# Altium schematic symbol library dungvh03-CERN_Logic.SchLib: 486 symbols (part 16 of 54)
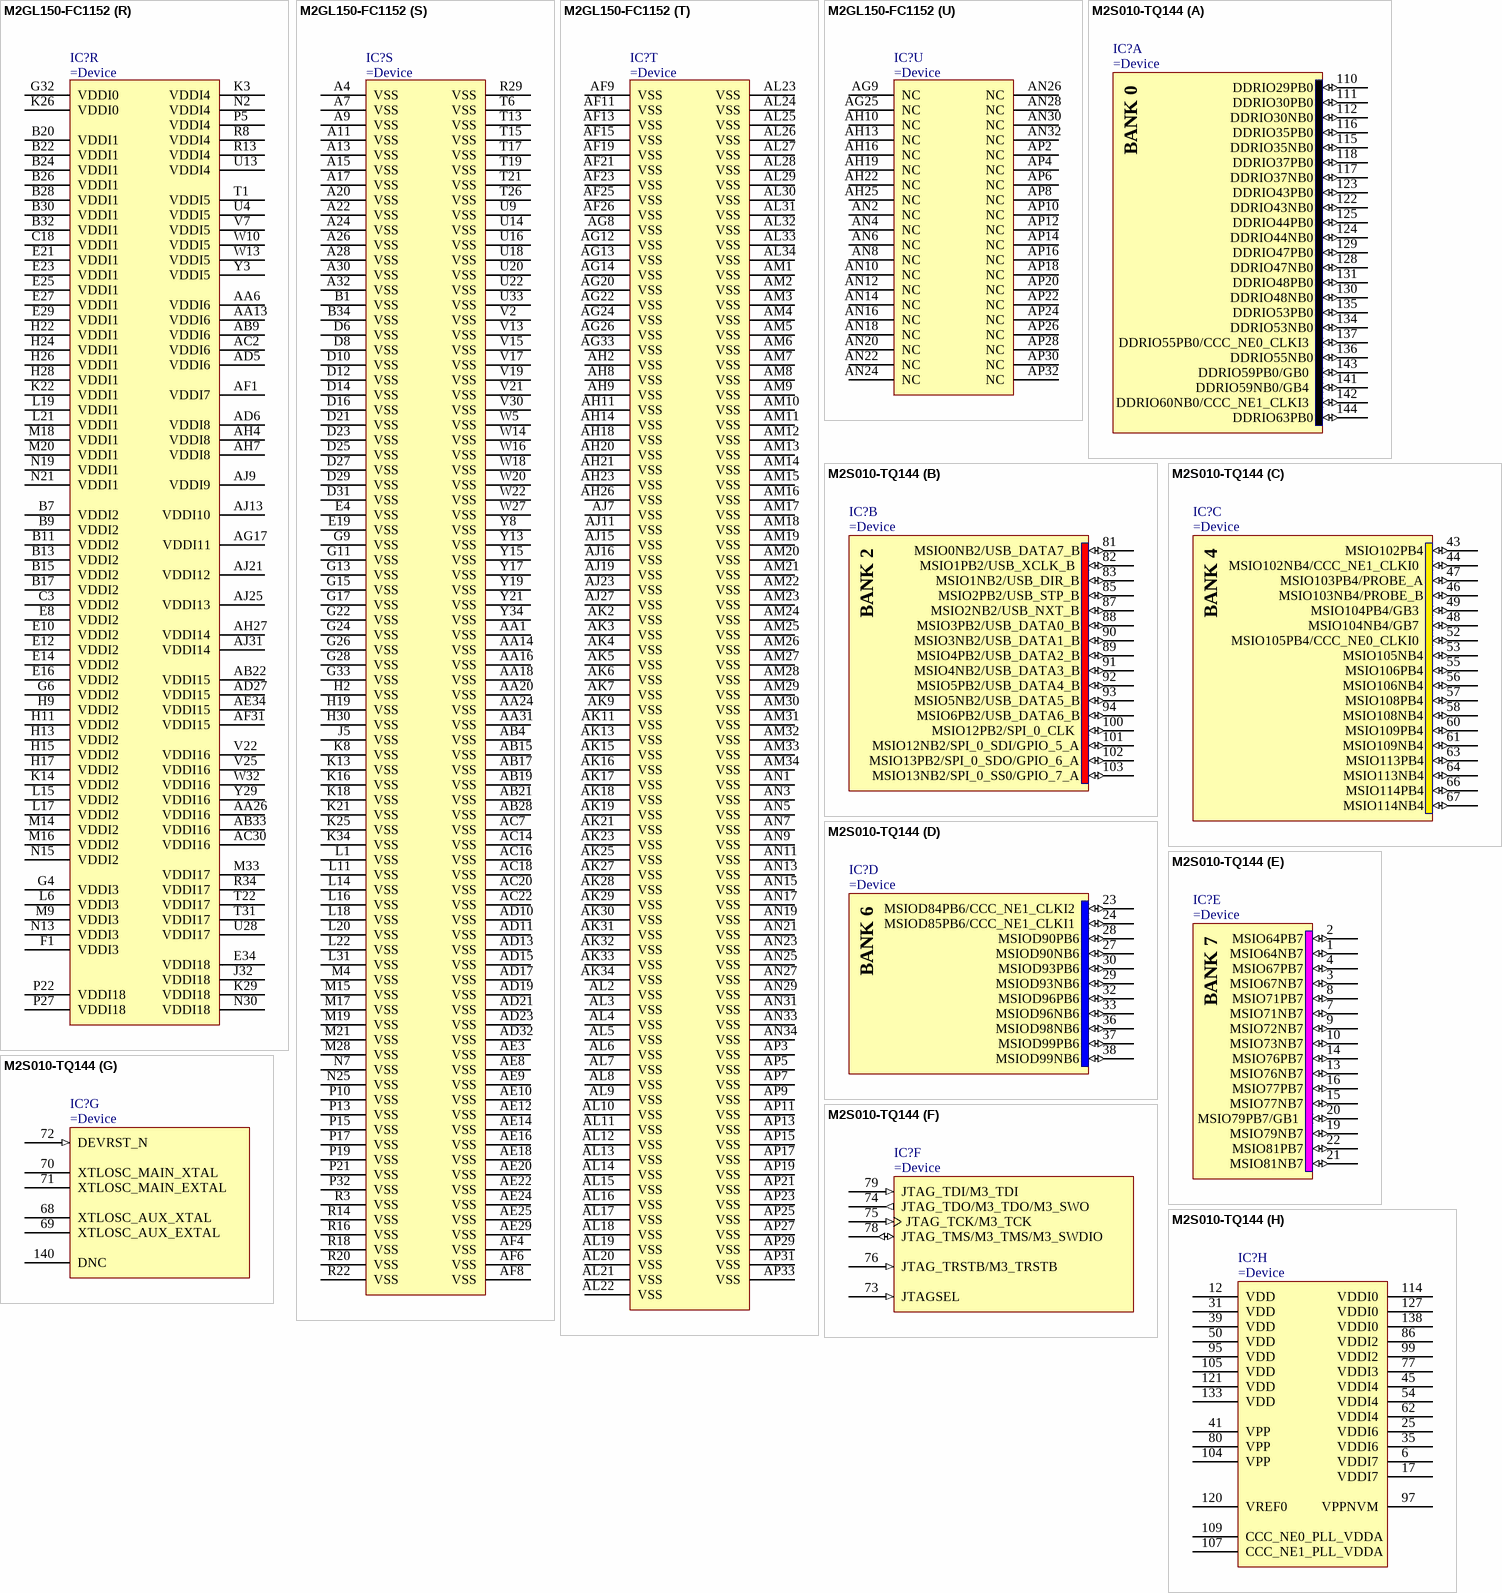
[diagram p276: symbols M2GL150-FC1152 to M2S010-TQ144]

## M2GL150-FC1152 (continued)
part K pins: AA25 MSIOD241PB16 (io) "MSIOD is very similar to MSIO, but drops 3.3 V and hot-plug support and adds pre-emphasis, in order to achieve higher speeds. MSIODs provide programmable drive strength, weak pull-up, and weak pull-down. MSIOD I/O cells (See Datasheet)", AA27 MSIOD238PB16 (io) "MSIOD is very similar to MSIO, but drops 3.3 V and hot-plug support and adds pre-emphasis, in order to achieve higher speeds. MSIODs provide programmable drive strength, weak pull-up, and weak pull-down. MSIOD I/O cells (See Datasheet)", AA28 MSIOD238NB16 (io) "MSIOD is very similar to MSIO, but drops 3.3 V and hot-plug support and adds pre-emphasis, in order to achieve higher speeds. MSIODs provide programmable drive strength, weak pull-up, and weak pull-down. MSIOD I/O cells (See Datasheet)", AA29 MSIOD237PB16 (io) "MSIOD is very similar to MSIO, but drops 3.3 V and hot-plug support and adds pre-emphasis, in order to achieve higher speeds. MSIODs provide programmable drive strength, weak pull-up, and weak pull-down. MSIOD I/O cells (See Datasheet)", AA30 MSIOD237NB16 (io) "MSIOD is very similar to MSIO, but drops 3.3 V and hot-plug support and adds pre-emphasis, in order to achieve higher speeds. MSIODs provide programmable drive strength, weak pull-up, and weak pull-down. MSIOD I/O cells (See Datasheet)", AA32 MSIOD228PB16 (io) "MSIOD is very similar to MSIO, but drops 3.3 V and hot-plug support and adds pre-emphasis, in order to achieve higher speeds. MSIODs provide programmable drive strength, weak pull-up, and weak pull-down. MSIOD I/O cells (See Datasheet)", AA33 MSIOD225PB16 (io) "MSIOD is very similar to MSIO, but drops 3.3 V and hot-plug support and adds pre-emphasis, in order to achieve higher speeds. MSIODs provide programmable drive strength, weak pull-up, and weak pull-down. MSIOD I/O cells (See Datasheet)", AA34 MSIOD225NB16 (io) "MSIOD is very similar to MSIO, but drops 3.3 V and hot-plug support and adds pre-emphasis, in order to achieve higher speeds. MSIODs provide programmable drive strength, weak pull-up, and weak pull-down. MSIOD I/O cells (See Datasheet)", AB29 MSIOD242PB16 (io) "MSIOD is very similar to MSIO, but drops 3.3 V and hot-plug support and adds pre-emphasis, in order to achieve higher speeds. MSIODs provide programmable drive strength, weak pull-up, and weak pull-down. MSIOD I/O cells (See Datasheet)", AB30 MSIOD242NB16 (io) "MSIOD is very similar to MSIO, but drops 3.3 V and hot-plug support and adds pre-emphasis, in order to achieve higher speeds. MSIODs provide programmable drive strength, weak pull-up, and weak pull-down. MSIOD I/O cells (See Datasheet)", AB31 MSIOD236PB16 (io) "MSIOD is very similar to MSIO, but drops 3.3 V and hot-plug support and adds pre-emphasis, in order to achieve higher speeds. MSIODs provide programmable drive strength, weak pull-up, and weak pull-down. MSIOD I/O cells (See Datasheet)", AB32 MSIOD236NB16 (io) "MSIOD is very similar to MSIO, but drops 3.3 V and hot-plug support and adds pre-emphasis, in order to achieve higher speeds. MSIODs provide programmable drive strength, weak pull-up, and weak pull-down. MSIOD I/O cells (See Datasheet)", AB34 MSIOD232NB16 (io) "MSIOD is very similar to MSIO, but drops 3.3 V and hot-plug support and adds pre-emphasis, in order to achieve higher speeds. MSIODs provide programmable drive strength, weak pull-up, and weak pull-down. MSIOD I/O cells (See Datasheet)", AC28 MSIOD243PB16 (io) "MSIOD is very similar to MSIO, but drops 3.3 V and hot-plug support and adds pre-emphasis, in order to achieve higher speeds. MSIODs provide programmable drive strength, weak pull-up, and weak pull-down. MSIOD I/O cells (See Datasheet)", AC29 MSIOD243NB16 (io) "MSIOD is very similar to MSIO, but drops 3.3 V and hot-plug support and adds pre-emphasis, in order to achieve higher speeds. MSIODs provide programmable drive strength, weak pull-up, and weak pull-down. MSIOD I/O cells (See Datasheet)", AC31 MSIOD240NB16 (io) "MSIOD is very similar to MSIO, but drops 3.3 V and hot-plug support and adds pre-emphasis, in order to achieve higher speeds. MSIODs provide programmable drive strength, weak pull-up, and weak pull-down. MSIOD I/O cells (See Datasheet)", AC32 MSIOD233PB16 (io) "MSIOD is very similar to MSIO, but drops 3.3 V and hot-plug support and adds pre-emphasis, in order to achieve higher speeds. MSIODs provide programmable drive strength, weak pull-up, and weak pull-down. MSIOD I/O cells (See Datasheet)", AC33 MSIOD233NB16 (io) "MSIOD is very similar to MSIO, but drops 3.3 V and hot-plug support and adds pre-emphasis, in order to achieve higher speeds. MSIODs provide programmable drive strength, weak pull-up, and weak pull-down. MSIOD I/O cells (See Datasheet)", AC34 MSIOD232PB16 (io) "MSIOD is very similar to MSIO, but drops 3.3 V and hot-plug support and adds pre-emphasis, in order to achieve higher speeds. MSIODs provide programmable drive strength, weak pull-up, and weak pull-down. MSIOD I/O cells (See Datasheet)", AD31 MSIOD240PB16 (io) "MSIOD is very similar to MSIO, but drops 3.3 V and hot-plug support and adds pre-emphasis, in order to achieve higher speeds. MSIODs provide programmable drive strength, weak pull-up, and weak pull-down. MSIOD I/O cells (See Datasheet)", AD33 MSIOD239PB16 (io) "MSIOD is very similar to MSIO, but drops 3.3 V and hot-plug support and adds pre-emphasis, in order to achieve higher speeds. MSIODs provide programmable drive strength, weak pull-up, and weak pull-down. MSIOD I/O cells (See Datasheet)", AD34 MSIOD239NB16 (io) "MSIOD is very similar to MSIO, but drops 3.3 V and hot-plug support and adds pre-emphasis, in order to achieve higher speeds. MSIODs provide programmable drive strength, weak pull-up, and weak pull-down. MSIOD I/O cells (See Datasheet)", T34 MSIOD217NB16 (io) "MSIOD is very similar to MSIO, but drops 3.3 V and hot-plug support and adds pre-emphasis, in order to achieve higher speeds. MSIODs provide programmable drive strength, weak pull-up, and weak pull-down. MSIOD I/O cells (See Datasheet)", U34 MSIOD217PB16/GB5/CCC_SW1_CLKI1 (io), V23 MSIOD220PB16/CCC_SW0_CLKI0 (io), V24 MSIOD220NB16 (io) "MSIOD is very similar to MSIO, but drops 3.3 V and hot-plug support and adds pre-emphasis, in order to achieve higher speeds. MSIODs provide programmable drive strength, weak pull-up, and weak pull-down. MSIOD I/O cells (See Datasheet)", V26 MSIOD222NB16 (io) "MSIOD is very similar to MSIO, but drops 3.3 V and hot-plug support and adds pre-emphasis, in order to achieve higher speeds. MSIODs provide programmable drive strength, weak pull-up, and weak pull-down. MSIOD I/O cells (See Datasheet)", V27 MSIOD222PB16 (io) "MSIOD is very similar to MSIO, but drops 3.3 V and hot-plug support and adds pre-emphasis, in order to achieve higher speeds. MSIODs provide programmable drive strength, weak pull-up, and weak pull-down. MSIOD I/O cells (See Datasheet)", V28 MSIOD223NB16 (io) "MSIOD is very similar to MSIO, but drops 3.3 V and hot-plug support and adds pre-emphasis, in order to achieve higher speeds. MSIODs provide programmable drive strength, weak pull-up, and weak pull-down. MSIOD I/O cells (See Datasheet)", V29 MSIOD223PB16 (io) "MSIOD is very similar to MSIO, but drops 3.3 V and hot-plug support and adds pre-emphasis, in order to achieve higher speeds. MSIODs provide programmable drive strength, weak pull-up, and weak pull-down. MSIOD I/O cells (See Datasheet)", V31 MSIOD221NB16 (io) "MSIOD is very similar to MSIO, but drops 3.3 V and hot-plug support and adds pre-emphasis, in order to achieve higher speeds. MSIODs provide programmable drive strength, weak pull-up, and weak pull-down. MSIOD I/O cells (See Datasheet)", V32 MSIOD218PB16/GB1/CCC_SW0_CLKI1 (io), V33 MSIOD218NB16 (io) "MSIOD is very similar to MSIO, but drops 3.3 V and hot-plug support and adds pre-emphasis, in order to achieve higher speeds. MSIODs provide programmable drive strength, weak pull-up, and weak pull-down. MSIOD I/O cells (See Datasheet)", V34 MSIOD219NB16 (io) "MSIOD is very similar to MSIO, but drops 3.3 V and hot-plug support and adds pre-emphasis, in order to achieve higher speeds. MSIODs provide programmable drive strength, weak pull-up, and weak pull-down. MSIOD I/O cells (See Datasheet)", W23 MSIOD227PB16 (io) "MSIOD is very similar to MSIO, but drops 3.3 V and hot-plug support and adds pre-emphasis, in order to achieve higher speeds. MSIODs provide programmable drive strength, weak pull-up, and weak pull-down. MSIOD I/O cells (See Datasheet)", W24 MSIOD227NB16 (io) "MSIOD is very similar to MSIO, but drops 3.3 V and hot-plug support and adds pre-emphasis, in order to achieve higher speeds. MSIODs provide programmable drive strength, weak pull-up, and weak pull-down. MSIOD I/O cells (See Datasheet)", W25 MSIOD229NB16 (io) "MSIOD is very similar to MSIO, but drops 3.3 V and hot-plug support and adds pre-emphasis, in order to achieve higher speeds. MSIODs provide programmable drive strength, weak pull-up, and weak pull-down. MSIOD I/O cells (See Datasheet)", W26 MSIOD229PB16 (io) "MSIOD is very similar to MSIO, but drops 3.3 V and hot-plug support and adds pre-emphasis, in order to achieve higher speeds. MSIODs provide programmable drive strength, weak pull-up, and weak pull-down. MSIOD I/O cells (See Datasheet)", W28 MSIOD231NB16 (io) "MSIOD is very similar to MSIO, but drops 3.3 V and hot-plug support and adds pre-emphasis, in order to achieve higher speeds. MSIODs provide programmable drive strength, weak pull-up, and weak pull-down. MSIOD I/O cells (See Datasheet)", W29 MSIOD226PB16 (io) "MSIOD is very similar to MSIO, but drops 3.3 V and hot-plug support and adds pre-emphasis, in order to achieve higher speeds. MSIODs provide programmable drive strength, weak pull-up, and weak pull-down. MSIOD I/O cells (See Datasheet)", W30 MSIOD226NB16 (io) "MSIOD is very similar to MSIO, but drops 3.3 V and hot-plug support and adds pre-emphasis, in order to achieve higher speeds. MSIODs provide programmable drive strength, weak pull-up, and weak pull-down. MSIOD I/O cells (See Datasheet)", W31 MSIOD221PB16 (io) "MSIOD is very similar to MSIO, but drops 3.3 V and hot-plug support and adds pre-emphasis, in order to achieve higher speeds. MSIODs provide programmable drive strength, weak pull-up, and weak pull-down. MSIOD I/O cells (See Datasheet)", W33 MSIOD224NB16 (io) "MSIOD is very similar to MSIO, but drops 3.3 V and hot-plug support and adds pre-emphasis, in order to achieve higher speeds. MSIODs provide programmable drive strength, weak pull-up, and weak pull-down. MSIOD I/O cells (See Datasheet)", W34 MSIOD219PB16/CCC_SW1_CLKI0 (io), Y23 MSIOD234PB16 (io) "MSIOD is very similar to MSIO, but drops 3.3 V and hot-plug support and adds pre-emphasis, in order to achieve higher speeds. MSIODs provide programmable drive strength, weak pull-up, and weak pull-down. MSIOD I/O cells (See Datasheet)", Y24 MSIOD234NB16 (io) "MSIOD is very similar to MSIO, but drops 3.3 V and hot-plug support and adds pre-emphasis, in order to achieve higher speeds. MSIODs provide programmable drive strength, weak pull-up, and weak pull-down. MSIOD I/O cells (See Datasheet)", Y25 MSIOD241NB16 (io) "MSIOD is very similar to MSIO, but drops 3.3 V and hot-plug support and adds pre-emphasis, in order to achieve higher speeds. MSIODs provide programmable drive strength, weak pull-up, and weak pull-down. MSIOD I/O cells (See Datasheet)", Y26 MSIOD235PB16 (io) "MSIOD is very similar to MSIO, but drops 3.3 V and hot-plug support and adds pre-emphasis, in order to achieve higher speeds. MSIODs provide programmable drive strength, weak pull-up, and weak pull-down. MSIOD I/O cells (See Datasheet)", Y27 MSIOD235NB16 (io) "MSIOD is very similar to MSIO, but drops 3.3 V and hot-plug support and adds pre-emphasis, in order to achieve higher speeds. MSIODs provide programmable drive strength, weak pull-up, and weak pull-down. MSIOD I/O cells (See Datasheet)", Y28 MSIOD231PB16 (io) "MSIOD is very similar to MSIO, but drops 3.3 V and hot-plug support and adds pre-emphasis, in order to achieve higher speeds. MSIODs provide programmable drive strength, weak pull-up, and weak pull-down. MSIOD I/O cells (See Datasheet)", Y30 MSIOD230PB16 (io) "MSIOD is very similar to MSIO, but drops 3.3 V and hot-plug support and adds pre-emphasis, in order to achieve higher speeds. MSIODs provide programmable drive strength, weak pull-up, and weak pull-down. MSIOD I/O cells (See Datasheet)", Y31 MSIOD230NB16 (io) "MSIOD is very similar to MSIO, but drops 3.3 V and hot-plug support and adds pre-emphasis, in order to achieve higher speeds. MSIODs provide programmable drive strength, weak pull-up, and weak pull-down. MSIOD I/O cells (See Datasheet)", Y32 MSIOD228NB16 (io) "MSIOD is very similar to MSIO, but drops 3.3 V and hot-plug support and adds pre-emphasis, in order to achieve higher speeds. MSIODs provide programmable drive strength, weak pull-up, and weak pull-down. MSIOD I/O cells (See Datasheet)", Y33 MSIOD224PB16 (io) "MSIOD is very similar to MSIO, but drops 3.3 V and hot-plug support and adds pre-emphasis, in order to achieve higher speeds. MSIODs provide programmable drive strength, weak pull-up, and weak pull-down. MSIOD I/O cells (See Datasheet)"
part L pins: L34 MSIO197NB17 (io) "MSIOs provide programmable drive strength, weak pull-up, and weak-pulldown.In single ended mode, the I/O pair operates as two separate I/Os named P and N. Some of these pins are also multiplexed with integrated peripherals (See Datasheet)", M34 MSIO197PB17 (io) "MSIOs provide programmable drive strength, weak pull-up, and weak-pulldown.In single ended mode, the I/O pair operates as two separate I/Os named P and N. Some of these pins are also multiplexed with integrated peripherals (See Datasheet)", N31 MSIO201NB17 (io) "MSIOs provide programmable drive strength, weak pull-up, and weak-pulldown.In single ended mode, the I/O pair operates as two separate I/Os named P and N. Some of these pins are also multiplexed with integrated peripherals (See Datasheet)", N32 MSIO201PB17 (io) "MSIOs provide programmable drive strength, weak pull-up, and weak-pulldown.In single ended mode, the I/O pair operates as two separate I/Os named P and N. Some of these pins are also multiplexed with integrated peripherals (See Datasheet)", N33 MSIO203NB17 (io) "MSIOs provide programmable drive strength, weak pull-up, and weak-pulldown.In single ended mode, the I/O pair operates as two separate I/Os named P and N. Some of these pins are also multiplexed with integrated peripherals (See Datasheet)", N34 MSIO208NB17 (io) "MSIOs provide programmable drive strength, weak pull-up, and weak-pulldown.In single ended mode, the I/O pair operates as two separate I/Os named P and N. Some of these pins are also multiplexed with integrated peripherals (See Datasheet)", P28 MSIO198NB17 (io) "MSIOs provide programmable drive strength, weak pull-up, and weak-pulldown.In single ended mode, the I/O pair operates as two separate I/Os named P and N. Some of these pins are also multiplexed with integrated peripherals (See Datasheet)", P29 MSIO198PB17 (io) "MSIOs provide programmable drive strength, weak pull-up, and weak-pulldown.In single ended mode, the I/O pair operates as two separate I/Os named P and N. Some of these pins are also multiplexed with integrated peripherals (See Datasheet)", P30 MSIO199NB17 (io) "MSIOs provide programmable drive strength, weak pull-up, and weak-pulldown.In single ended mode, the I/O pair operates as two separate I/Os named P and N. Some of these pins are also multiplexed with integrated peripherals (See Datasheet)", P31 MSIO199PB17 (io) "MSIOs provide programmable drive strength, weak pull-up, and weak-pulldown.In single ended mode, the I/O pair operates as two separate I/Os named P and N. Some of these pins are also multiplexed with integrated peripherals (See Datasheet)", P33 MSIO203PB17 (io) "MSIOs provide programmable drive strength, weak pull-up, and weak-pulldown.In single ended mode, the I/O pair operates as two separate I/Os named P and N. Some of these pins are also multiplexed with integrated peripherals (See Datasheet)", P34 MSIO208PB17 (io) "MSIOs provide programmable drive strength, weak pull-up, and weak-pulldown.In single ended mode, the I/O pair operates as two separate I/Os named P and N. Some of these pins are also multiplexed with integrated peripherals (See Datasheet)", R23 MSIO200PB17 (io) "MSIOs provide programmable drive strength, weak pull-up, and weak-pulldown.In single ended mode, the I/O pair operates as two separate I/Os named P and N. Some of these pins are also multiplexed with integrated peripherals (See Datasheet)", R24 MSIO200NB17 (io) "MSIOs provide programmable drive strength, weak pull-up, and weak-pulldown.In single ended mode, the I/O pair operates as two separate I/Os named P and N. Some of these pins are also multiplexed with integrated peripherals (See Datasheet)", R25 MSIO202NB17 (io) "MSIOs provide programmable drive strength, weak pull-up, and weak-pulldown.In single ended mode, the I/O pair operates as two separate I/Os named P and N. Some of these pins are also multiplexed with integrated peripherals (See Datasheet)", R26 MSIO202PB17 (io) "MSIOs provide programmable drive strength, weak pull-up, and weak-pulldown.In single ended mode, the I/O pair operates as two separate I/Os named P and N. Some of these pins are also multiplexed with integrated peripherals (See Datasheet)", R27 MSIO204NB17 (io) "MSIOs provide programmable drive strength, weak pull-up, and weak-pulldown.In single ended mode, the I/O pair operates as two separate I/Os named P and N. Some of these pins are also multiplexed with integrated peripherals (See Datasheet)", R28 MSIO204PB17 (io) "MSIOs provide programmable drive strength, weak pull-up, and weak-pulldown.In single ended mode, the I/O pair operates as two separate I/Os named P and N. Some of these pins are also multiplexed with integrated peripherals (See Datasheet)", R30 MSIO205NB17 (io) "MSIOs provide programmable drive strength, weak pull-up, and weak-pulldown.In single ended mode, the I/O pair operates as two separate I/Os named P and N. Some of these pins are also multiplexed with integrated peripherals (See Datasheet)", R31 MSIO205PB17 (io) "MSIOs provide programmable drive strength, weak pull-up, and weak-pulldown.In single ended mode, the I/O pair operates as two separate I/Os named P and N. Some of these pins are also multiplexed with integrated peripherals (See Datasheet)", R32 MSIO207NB17 (io) "MSIOs provide programmable drive strength, weak pull-up, and weak-pulldown.In single ended mode, the I/O pair operates as two separate I/Os named P and N. Some of these pins are also multiplexed with integrated peripherals (See Datasheet)", R33 MSIO207PB17 (io) "MSIOs provide programmable drive strength, weak pull-up, and weak-pulldown.In single ended mode, the I/O pair operates as two separate I/Os named P and N. Some of these pins are also multiplexed with integrated peripherals (See Datasheet)", T23 MSIO206PB17 (io) "MSIOs provide programmable drive strength, weak pull-up, and weak-pulldown.In single ended mode, the I/O pair operates as two separate I/Os named P and N. Some of these pins are also multiplexed with integrated peripherals (See Datasheet)", T24 MSIO206NB17 (io) "MSIOs provide programmable drive strength, weak pull-up, and weak-pulldown.In single ended mode, the I/O pair operates as two separate I/Os named P and N. Some of these pins are also multiplexed with integrated peripherals (See Datasheet)", T25 MSIO211NB17 (io) "MSIOs provide programmable drive strength, weak pull-up, and weak-pulldown.In single ended mode, the I/O pair operates as two separate I/Os named P and N. Some of these pins are also multiplexed with integrated peripherals (See Datasheet)", T27 MSIO209NB17 (io) "MSIOs provide programmable drive strength, weak pull-up, and weak-pulldown.In single ended mode, the I/O pair operates as two separate I/Os named P and N. Some of these pins are also multiplexed with integrated peripherals (See Datasheet)", T28 MSIO209PB17 (io) "MSIOs provide programmable drive strength, weak pull-up, and weak-pulldown.In single ended mode, the I/O pair operates as two separate I/Os named P and N. Some of these pins are also multiplexed with integrated peripherals (See Datasheet)", T29 MSIO210NB17 (io) "MSIOs provide programmable drive strength, weak pull-up, and weak-pulldown.In single ended mode, the I/O pair operates as two separate I/Os named P and N. Some of these pins are also multiplexed with integrated peripherals (See Datasheet)", T30 MSIO210PB17 (io) "MSIOs provide programmable drive strength, weak pull-up, and weak-pulldown.In single ended mode, the I/O pair operates as two separate I/Os named P and N. Some of these pins are also multiplexed with integrated peripherals (See Datasheet)", T32 MSIO212NB17 (io) "MSIOs provide programmable drive strength, weak pull-up, and weak-pulldown.In single ended mode, the I/O pair operates as two separate I/Os named P and N. Some of these pins are also multiplexed with integrated peripherals (See Datasheet)", T33 MSIO212PB17 (io) "MSIOs provide programmable drive strength, weak pull-up, and weak-pulldown.In single ended mode, the I/O pair operates as two separate I/Os named P and N. Some of these pins are also multiplexed with integrated peripherals (See Datasheet)", U23 MSIO214PB17/GB2/CCC_NW0_CLKI1 (io), U24 MSIO214NB17 (io) "MSIOs provide programmable drive strength, weak pull-up, and weak-pulldown.In single ended mode, the I/O pair operates as two separate I/Os named P and N. Some of these pins are also multiplexed with integrated peripherals (See Datasheet)", U25 MSIO211PB17 (io) "MSIOs provide programmable drive strength, weak pull-up, and weak-pulldown.In single ended mode, the I/O pair operates as two separate I/Os named P and N. Some of these pins are also multiplexed with integrated peripherals (See Datasheet)", U26 MSIO216NB17 (io) "MSIOs provide programmable drive strength, weak pull-up, and weak-pulldown.In single ended mode, the I/O pair operates as two separate I/Os named P and N. Some of these pins are also multiplexed with integrated peripherals (See Datasheet)", U27 MSIO216PB17/CCC_NW0_CLKI0 (io), U29 MSIO215PB17/CCC_NW1_CLKI0 (io), U30 MSIO215NB17 (io) "MSIOs provide programmable drive strength, weak pull-up, and weak-pulldown.In single ended mode, the I/O pair operates as two separate I/Os named P and N. Some of these pins are also multiplexed with integrated peripherals (See Datasheet)", U31 MSIO213PB17/GB6/CCC_NW1_CLKI1 (io), U32 MSIO213NB17 (io) "MSIOs provide programmable drive strength, weak pull-up, and weak-pulldown.In single ended mode, the I/O pair operates as two separate I/Os named P and N. Some of these pins are also multiplexed with integrated peripherals (See Datasheet)"
part M pins: C34 MSIO180NB18 (io) "MSIOs provide programmable drive strength, weak pull-up, and weak-pulldown.In single ended mode, the I/O pair operates as two separate I/Os named P and N. Some of these pins are also multiplexed with integrated peripherals (See Datasheet)", D33 MSIO176NB18 (io) "MSIOs provide programmable drive strength, weak pull-up, and weak-pulldown.In single ended mode, the I/O pair operates as two separate I/Os named P and N. Some of these pins are also multiplexed with integrated peripherals (See Datasheet)", D34 MSIO180PB18 (io) "MSIOs provide programmable drive strength, weak pull-up, and weak-pulldown.In single ended mode, the I/O pair operates as two separate I/Os named P and N. Some of these pins are also multiplexed with integrated peripherals (See Datasheet)", E33 MSIO176PB18 (io) "MSIOs provide programmable drive strength, weak pull-up, and weak-pulldown.In single ended mode, the I/O pair operates as two separate I/Os named P and N. Some of these pins are also multiplexed with integrated peripherals (See Datasheet)", F33 MSIO185NB18 (io) "MSIOs provide programmable drive strength, weak pull-up, and weak-pulldown.In single ended mode, the I/O pair operates as two separate I/Os named P and N. Some of these pins are also multiplexed with integrated peripherals (See Datasheet)", F34 MSIO185PB18 (io) "MSIOs provide programmable drive strength, weak pull-up, and weak-pulldown.In single ended mode, the I/O pair operates as two separate I/Os named P and N. Some of these pins are also multiplexed with integrated peripherals (See Datasheet)", G34 MSIO196NB18 (io) "MSIOs provide programmable drive strength, weak pull-up, and weak-pulldown.In single ended mode, the I/O pair operates as two separate I/Os named P and N. Some of these pins are also multiplexed with integrated peripherals (See Datasheet)", H32 MSIO184NB18 (io) "MSIOs provide programmable drive strength, weak pull-up, and weak-pulldown.In single ended mode, the I/O pair operates as two separate I/Os named P and N. Some of these pins are also multiplexed with integrated peripherals (See Datasheet)", H33 MSIO184PB18 (io) "MSIOs provide programmable drive strength, weak pull-up, and weak-pulldown.In single ended mode, the I/O pair operates as two separate I/Os named P and N. Some of these pins are also multiplexed with integrated peripherals (See Datasheet)", H34 MSIO196PB18 (io) "MSIOs provide programmable drive strength, weak pull-up, and weak-pulldown.In single ended mode, the I/O pair operates as two separate I/Os named P and N. Some of these pins are also multiplexed with integrated peripherals (See Datasheet)", J30 MSIO177NB18 (io) "MSIOs provide programmable drive strength, weak pull-up, and weak-pulldown.In single ended mode, the I/O pair operates as two separate I/Os named P and N. Some of these pins are also multiplexed with integrated peripherals (See Datasheet)", J31 MSIO177PB18 (io) "MSIOs provide programmable drive strength, weak pull-up, and weak-pulldown.In single ended mode, the I/O pair operates as two separate I/Os named P and N. Some of these pins are also multiplexed with integrated peripherals (See Datasheet)", J33 MSIO194NB18 (io) "MSIOs provide programmable drive strength, weak pull-up, and weak-pulldown.In single ended mode, the I/O pair operates as two separate I/Os named P and N. Some of these pins are also multiplexed with integrated peripherals (See Datasheet)", J34 MSIO194PB18 (io) "MSIOs provide programmable drive strength, weak pull-up, and weak-pulldown.In single ended mode, the I/O pair operates as two separate I/Os named P and N. Some of these pins are also multiplexed with integrated peripherals (See Datasheet)", K30 MSIO179NB18 (io) "MSIOs provide programmable drive strength, weak pull-up, and weak-pulldown.In single ended mode, the I/O pair operates as two separate I/Os named P and N. Some of these pins are also multiplexed with integrated peripherals (See Datasheet)", K31 MSIO179PB18 (io) "MSIOs provide programmable drive strength, weak pull-up, and weak-pulldown.In single ended mode, the I/O pair operates as two separate I/Os named P and N. Some of these pins are also multiplexed with integrated peripherals (See Datasheet)", K32 MSIO187NB18 (io) "MSIOs provide programmable drive strength, weak pull-up, and weak-pulldown.In single ended mode, the I/O pair operates as two separate I/Os named P and N. Some of these pins are also multiplexed with integrated peripherals (See Datasheet)", K33 MSIO187PB18 (io) "MSIOs provide programmable drive strength, weak pull-up, and weak-pulldown.In single ended mode, the I/O pair operates as two separate I/Os named P and N. Some of these pins are also multiplexed with integrated peripherals (See Datasheet)", L27 MSIO178NB18 (io) "MSIOs provide programmable drive strength, weak pull-up, and weak-pulldown.In single ended mode, the I/O pair operates as two separate I/Os named P and N. Some of these pins are also multiplexed with integrated peripherals (See Datasheet)", L28 MSIO178PB18 (io) "MSIOs provide programmable drive strength, weak pull-up, and weak-pulldown.In single ended mode, the I/O pair operates as two separate I/Os named P and N. Some of these pins are also multiplexed with integrated peripherals (See Datasheet)", L29 MSIO182NB18 (io) "MSIOs provide programmable drive strength, weak pull-up, and weak-pulldown.In single ended mode, the I/O pair operates as two separate I/Os named P and N. Some of these pins are also multiplexed with integrated peripherals (See Datasheet)", L30 MSIO182PB18 (io) "MSIOs provide programmable drive strength, weak pull-up, and weak-pulldown.In single ended mode, the I/O pair operates as two separate I/Os named P and N. Some of these pins are also multiplexed with integrated peripherals (See Datasheet)", L32 MSIO190NB18 (io) "MSIOs provide programmable drive strength, weak pull-up, and weak-pulldown.In single ended mode, the I/O pair operates as two separate I/Os named P and N. Some of these pins are also multiplexed with integrated peripherals (See Datasheet)", L33 MSIO190PB18 (io) "MSIOs provide programmable drive strength, weak pull-up, and weak-pulldown.In single ended mode, the I/O pair operates as two separate I/Os named P and N. Some of these pins are also multiplexed with integrated peripherals (See Datasheet)", M24 MSIO181NB18 (io) "MSIOs provide programmable drive strength, weak pull-up, and weak-pulldown.In single ended mode, the I/O pair operates as two separate I/Os named P and N. Some of these pins are also multiplexed with integrated peripherals (See Datasheet)", M25 MSIO181PB18 (io) "MSIOs provide programmable drive strength, weak pull-up, and weak-pulldown.In single ended mode, the I/O pair operates as two separate I/Os named P and N. Some of these pins are also multiplexed with integrated peripherals (See Datasheet)", M26 MSIO183NB18 (io) "MSIOs provide programmable drive strength, weak pull-up, and weak-pulldown.In single ended mode, the I/O pair operates as two separate I/Os named P and N. Some of these pins are also multiplexed with integrated peripherals (See Datasheet)", M27 MSIO183PB18 (io) "MSIOs provide programmable drive strength, weak pull-up, and weak-pulldown.In single ended mode, the I/O pair operates as two separate I/Os named P and N. Some of these pins are also multiplexed with integrated peripherals (See Datasheet)", M29 MSIO188NB18 (io) "MSIOs provide programmable drive strength, weak pull-up, and weak-pulldown.In single ended mode, the I/O pair operates as two separate I/Os named P and N. Some of these pins are also multiplexed with integrated peripherals (See Datasheet)", M30 MSIO188PB18 (io) "MSIOs provide programmable drive strength, weak pull-up, and weak-pulldown.In single ended mode, the I/O pair operates as two separate I/Os named P and N. Some of these pins are also multiplexed with integrated peripherals (See Datasheet)", M31 MSIO191NB18 (io) "MSIOs provide programmable drive strength, weak pull-up, and weak-pulldown.In single ended mode, the I/O pair operates as two separate I/Os named P and N. Some of these pins are also multiplexed with integrated peripherals (See Datasheet)", M32 MSIO191PB18 (io) "MSIOs provide programmable drive strength, weak pull-up, and weak-pulldown.In single ended mode, the I/O pair operates as two separate I/Os named P and N. Some of these pins are also multiplexed with integrated peripherals (See Datasheet)", N23 MSIO186PB18 (io) "MSIOs provide programmable drive strength, weak pull-up, and weak-pulldown.In single ended mode, the I/O pair operates as two separate I/Os named P and N. Some of these pins are also multiplexed with integrated peripherals (See Datasheet)", N24 MSIO186NB18 (io) "MSIOs provide programmable drive strength, weak pull-up, and weak-pulldown.In single ended mode, the I/O pair operates as two separate I/Os named P and N. Some of these pins are also multiplexed with integrated peripherals (See Datasheet)", N26 MSIO189NB18 (io) "MSIOs provide programmable drive strength, weak pull-up, and weak-pulldown.In single ended mode, the I/O pair operates as two separate I/Os named P and N. Some of these pins are also multiplexed with integrated peripherals (See Datasheet)", N27 MSIO189PB18 (io) "MSIOs provide programmable drive strength, weak pull-up, and weak-pulldown.In single ended mode, the I/O pair operates as two separate I/Os named P and N. Some of these pins are also multiplexed with integrated peripherals (See Datasheet)", N28 MSIO193NB18 (io) "MSIOs provide programmable drive strength, weak pull-up, and weak-pulldown.In single ended mode, the I/O pair operates as two separate I/Os named P and N. Some of these pins are also multiplexed with integrated peripherals (See Datasheet)", N29 MSIO193PB18 (io) "MSIOs provide programmable drive strength, weak pull-up, and weak-pulldown.In single ended mode, the I/O pair operates as two separate I/Os named P and N. Some of these pins are also multiplexed with integrated peripherals (See Datasheet)", P23 MSIO192PB18 (io) "MSIOs provide programmable drive strength, weak pull-up, and weak-pulldown.In single ended mode, the I/O pair operates as two separate I/Os named P and N. Some of these pins are also multiplexed with integrated peripherals (See Datasheet)", P24 MSIO192NB18 (io) "MSIOs provide programmable drive strength, weak pull-up, and weak-pulldown.In single ended mode, the I/O pair operates as two separate I/Os named P and N. Some of these pins are also multiplexed with integrated peripherals (See Datasheet)", P25 MSIO195NB18 (io) "MSIOs provide programmable drive strength, weak pull-up, and weak-pulldown.In single ended mode, the I/O pair operates as two separate I/Os named P and N. Some of these pins are also multiplexed with integrated peripherals (See Datasheet)", P26 MSIO195PB18 (io) "MSIOs provide programmable drive strength, weak pull-up, and weak-pulldown.In single ended mode, the I/O pair operates as two separate I/Os named P and N. Some of these pins are also multiplexed with integrated peripherals (See Datasheet)"
part N pins: AE1 JTAG_TDI (in), AE2 JTAG_TMS (io), AF2 JTAG_TDO (out), AF3 JTAG_TCK (in), AG1 JTAG_TRSTB (in), AG2 JTAGSEL (in) "JTAG controller selection. If JTAGSEL is pulled High, an external TAP controller connects to the JTAG interface-system controller TAP. If JTAGSEL is pulled Low, an external TAP controller connects to either the Cortex-M3 (See Datasheet)"
part O pins: AC6 FLASH_GOLDEN_N (in) "If pulled Low, this indicates that the device is to be re-programmed from an image in the external SPI flash attached to the SPI interface. If pulled High, the SPI is put into slave mode. Add an external pull-up resistor (See Datasheet)", AC10 SC_SPI_SS (in) "SPI slave select", AC11 SC_SPI_SDO (out) "SPI data output", AD8 SC_SPI_SDI (in) "SPI data input", AD9 SC_SPI_CLK (io) "SPI clock", AE5 DEVRST_N (in) "Device reset; asserted Low and powered by VPP. It is a Schmitt trigger input. In unused condition, pull up to VPP through 10 KOhm resistor.", AK1 XTLOSC_MAIN_EXTAL "Crystal connection or external RC network.", AL1 XTLOSC_MAIN_XTAL "Input clock from the main crystal oscillator.", C33 FDDR_IMP_CALIB "Pulled down with resistor depending on voltage/standard: DDR2 - 150 Ohms, DDR3 1.5 V - 240 Ohms, LPDDR - 150 Ohms", K15 MDDR_IMP_CALIB "Pulled down with resistor depending on voltage/standard: DDR2 - 150 Ohms, DDR3 1.5 V - 240 Ohms, LPDDR - 150 Ohms"
part P pins: AA21 CCC_SW1_PLL_VSSA (power) "VDDA to on-die VSSA high pass filter connection for PLL5", AA22 CCC_SW0_PLL_VSSA (power) "VDDA to on-die VSSA high pass filter connection for PLL4", AA23 CCC_SW0_PLL_VDDA (power) "Analog power pad for PLL4", AB11 CCC_SE1_PLL_VDDA (power), AB12 CCC_SE0_PLL_VDDA (power), AB13 CCC_SE0_PLL_VSSA (power), AC12 CCC_SE1_PLL_VSSA (power), K11 HPMS_MDDR_PLL_VSSA (power) "Analog ground pad for PLL of MDDR and MSS", K12 HPMS_MDDR_PLL_VDDA (power) "Analog power pad for PLL of MDDR and MSS", K23 FDDR_PLL_VDDA (power) "Analog power pad for PLL of FDDR", K24 FDDR_PLL_VSSA (power) "Analog ground pad for PLL of FDDR", L12 CCC_NE0_PLL_VSSA (power) "VDDA to on-die VSSA high pass filter connection for PLL0", L13 CCC_NE0_PLL_VDDA (power) "Analog power pad for PLL0", L23 CCC_NW0_PLL_VSSA (power) "VDDA to on-die VSSA high pass filter connection for PLL2", L24 CCC_NW0_PLL_VDDA (power) "Analog power pad for PLL2", M12 CCC_NE1_PLL_VSSA (power) "VDDA to on-die VSSA high pass filter connection for PLL1", M13 CCC_NE1_PLL_VDDA (power) "Analog power pad for PLL1", M22 CCC_NW1_PLL_VSSA (power) "VDDA to on-die VSSA high pass filter connection for PLL3", M23 CCC_NW1_PLL_VDDA (power) "Analog power pad for PLL3", Y22 CCC_SW1_PLL_VDDA (power) "Analog power pad for PLL5"
part Q pins: AA15 VPP (power) "Power supply for charge pumps (for normal operation and programming). Must always power this pin.", AA17 VPP (power) "Power supply for charge pumps (for normal operation and programming). Must always power this pin.", AA19 VPP (power) "Power supply for charge pumps (for normal operation and programming). Must always power this pin.", AB14 VDD (power) "DC core supply voltage. Must always power this pin.", AB16 VDD (power) "DC core supply voltage. Must always power this pin.", AB18 VDD (power) "DC core supply voltage. Must always power this pin.", AB20 VDD (power) "DC core supply voltage. Must always power this pin.", AC13 VDD (power) "DC core supply voltage. Must always power this pin.", AC15 VDD (power) "DC core supply voltage. Must always power this pin.", AC17 VDD (power) "DC core supply voltage. Must always power this pin.", AC19 VDD (power) "DC core supply voltage. Must always power this pin.", AC21 VDD (power) "DC core supply voltage. Must always power this pin.", AD12 VDD (power) "DC core supply voltage. Must always power this pin.", AD14 VDD (power) "DC core supply voltage. Must always power this pin.", AD16 VDD (power) "DC core supply voltage. Must always power this pin.", AD18 VDD (power) "DC core supply voltage. Must always power this pin.", AD20 VDD (power) "DC core supply voltage. Must always power this pin.", AD22 VDD (power) "DC core supply voltage. Must always power this pin.", AE11 VDD (power) "DC core supply voltage. Must always power this pin.", AE13 VDD (power) "DC core supply voltage. Must always power this pin.", AE15 VDD (power) "DC core supply voltage. Must always power this pin.", AE19 VDD (power) "DC core supply voltage. Must always power this pin.", AE21 VDD (power) "DC core supply voltage. Must always power this pin.", AE23 VDD (power) "DC core supply voltage. Must always power this pin.", AF10 VPP (power) "Power supply for charge pumps (for normal operation and programming). Must always power this pin.", AF12 VDD (power) "DC core supply voltage. Must always power this pin.", AF14 VDD (power) "DC core supply voltage. Must always power this pin.", AF20 VDD (power) "DC core supply voltage. Must always power this pin.", AF22 VDD (power) "DC core supply voltage. Must always power this pin.", AF24 VDD (power) "DC core supply voltage. Must always power this pin.", AG10 VDD (power) "DC core supply voltage. Must always power this pin.", AG11 VDD (power) "DC core supply voltage. Must always power this pin.", AG15 VDD (power) "DC core supply voltage. Must always power this pin.", AG19 VDD (power) "DC core supply voltage. Must always power this pin.", AG21 VDD (power) "DC core supply voltage. Must always power this pin.", AG23 VDD (power) "DC core supply voltage. Must always power this pin.", AH1 VPP (power) "Power supply for charge pumps (for normal operation and programming). Must always power this pin.", AH12 VPP (power) "Power supply for charge pumps (for normal operation and programming). Must always power this pin.", AH15 VDD (power) "DC core supply voltage. Must always power this pin.", AH24 VPP (power) "Power supply for charge pumps (for normal operation and programming). Must always power this pin.", AJ1 VPP (power) "Power supply for charge pumps (for normal operation and programming). Must always power this pin.", AJ18 VPP (power) "Power supply for charge pumps (for normal operation and programming). Must always power this pin.", N14 VREF2 (power), N16 VREF2 (power), N17 VREF2 (power), N18 VREF1 (power), N20 VREF1 (power), N22 VREF1 (power), P14 VDD (power) "DC core supply voltage. Must always power this pin.", P16 VDD (power) "DC core supply voltage. Must always power this pin.", P18 VDD (power) "DC core supply voltage. Must always power this pin.", P20 VDD (power) "DC core supply voltage. Must always power this pin.", R15 VDD (power) "DC core supply voltage. Must always power this pin.", R17 VDD (power) "DC core supply voltage. Must always power this pin.", R19 VDD (power) "DC core supply voltage. Must always power this pin.", R21 VDD (power) "DC core supply voltage. Must always power this pin.", T14 VPP (power) "Power supply for charge pumps (for normal operation and programming). Must always power this pin.", T16 VDD (power) "DC core supply voltage. Must always power this pin.", T18 VDD (power) "DC core supply voltage. Must always power this pin.", T20 VDD (power) "DC core supply voltage. Must always power this pin.", U15 VDD (power) "DC core supply voltage. Must always power this pin.", U17 VDD (power) "DC core supply voltage. Must always power this pin.", U19 VDD (power) "DC core supply voltage. Must always power this pin.", U21 VDD (power) "DC core supply voltage. Must always power this pin.", V14 VPP (power) "Power supply for charge pumps (for normal operation and programming). Must always power this pin.", V16 VDD (power) "DC core supply voltage. Must always power this pin.", V18 VDD (power) "DC core supply voltage. Must always power this pin.", V20 VDD (power) "DC core supply voltage. Must always power this pin.", W15 VDD (power) "DC core supply voltage. Must always power this pin.", W17 VDD (power) "DC core supply voltage. Must always power this pin.", W19 VDD (power) "DC core supply voltage. Must always power this pin.", W21 VDD (power) "DC core supply voltage. Must always power this pin.", Y14 VDD (power) "DC core supply voltage. Must always power this pin.", Y16 VDD (power) "DC core supply voltage. Must always power this pin.", Y18 VDD (power) "DC core supply voltage. Must always power this pin.", Y20 VDD (power) "DC core supply voltage. Must always power this pin."
part R pins: AA6 VDDI6 (power) "VDDI port 6, bank 6 power", AA13 VDDI6 (power) "VDDI port 6, bank 6 power", AA26 VDDI16 (power), AB9 VDDI6 (power) "VDDI port 6, bank 6 power", AB22 VDDI15 (power), AB33 VDDI16 (power), AC2 VDDI6 (power) "VDDI port 6, bank 6 power", AC30 VDDI16 (power), AD5 VDDI6 (power) "VDDI port 6, bank 6 power", AD6 VDDI8 (power) "VDDI port 8, bank 8 power", AD27 VDDI15 (power), AE34 VDDI15 (power), AF1 VDDI7 (power) "VDDI port 7, bank 7 power", AF31 VDDI15 (power), AG17 VDDI11 (power), AH4 VDDI8 (power) "VDDI port 8, bank 8 power", AH7 VDDI8 (power) "VDDI port 8, bank 8 power", AH27 VDDI14 (power), AJ9 VDDI9 (power) "VDDI port 9, bank 9 power", AJ13 VDDI10 (power), AJ21 VDDI12 (power), AJ25 VDDI13 (power), AJ31 VDDI14 (power), B7 VDDI2 (power) "VDDI port 2, bank 2 power", B9 VDDI2 (power) "VDDI port 2, bank 2 power", B11 VDDI2 (power) "VDDI port 2, bank 2 power", B13 VDDI2 (power) "VDDI port 2, bank 2 power", B15 VDDI2 (power) "VDDI port 2, bank 2 power", B17 VDDI2 (power) "VDDI port 2, bank 2 power", B20 VDDI1 (power) "VDDI port 1, bank 1 power", B22 VDDI1 (power) "VDDI port 1, bank 1 power", B24 VDDI1 (power) "VDDI port 1, bank 1 power", B26 VDDI1 (power) "VDDI port 1, bank 1 power", B28 VDDI1 (power) "VDDI port 1, bank 1 power", B30 VDDI1 (power) "VDDI port 1, bank 1 power", B32 VDDI1 (power) "VDDI port 1, bank 1 power", C3 VDDI2 (power) "VDDI port 2, bank 2 power", C18 VDDI1 (power) "VDDI port 1, bank 1 power", E8 VDDI2 (power) "VDDI port 2, bank 2 power", E10 VDDI2 (power) "VDDI port 2, bank 2 power", E12 VDDI2 (power) "VDDI port 2, bank 2 power", E14 VDDI2 (power) "VDDI port 2, bank 2 power", E16 VDDI2 (power) "VDDI port 2, bank 2 power", E21 VDDI1 (power) "VDDI port 1, bank 1 power", E23 VDDI1 (power) "VDDI port 1, bank 1 power", E25 VDDI1 (power) "VDDI port 1, bank 1 power", E27 VDDI1 (power) "VDDI port 1, bank 1 power", E29 VDDI1 (power) "VDDI port 1, bank 1 power", E34 VDDI18 (power), F1 VDDI3 (power) "VDDI port 3, bank 3 power", G4 VDDI3 (power) "VDDI port 3, bank 3 power", G6 VDDI2 (power) "VDDI port 2, bank 2 power", G32 VDDI0 (power) "VDDI port 0, bank 0 power", H9 VDDI2 (power) "VDDI port 2, bank 2 power", H11 VDDI2 (power) "VDDI port 2, bank 2 power", H13 VDDI2 (power) "VDDI port 2, bank 2 power", H15 VDDI2 (power) "VDDI port 2, bank 2 power", H17 VDDI2 (power) "VDDI port 2, bank 2 power", H22 VDDI1 (power) "VDDI port 1, bank 1 power", H24 VDDI1 (power) "VDDI port 1, bank 1 power", H26 VDDI1 (power) "VDDI port 1, bank 1 power", H28 VDDI1 (power) "VDDI port 1, bank 1 power", J32 VDDI18 (power), K3 VDDI4 (power) "VDDI port 4, bank 4 power", K14 VDDI2 (power) "VDDI port 2, bank 2 power", K22 VDDI1 (power) "VDDI port 1, bank 1 power", K26 VDDI0 (power) "VDDI port 0, bank 0 power", K29 VDDI18 (power), L6 VDDI3 (power) "VDDI port 3, bank 3 power", L15 VDDI2 (power) "VDDI port 2, bank 2 power", L17 VDDI2 (power) "VDDI port 2, bank 2 power", L19 VDDI1 (power) "VDDI port 1, bank 1 power", L21 VDDI1 (power) "VDDI port 1, bank 1 power", M9 VDDI3 (power) "VDDI port 3, bank 3 power", M14 VDDI2 (power) "VDDI port 2, bank 2 power", M16 VDDI2 (power) "VDDI port 2, bank 2 power", M18 VDDI1 (power) "VDDI port 1, bank 1 power", M20 VDDI1 (power) "VDDI port 1, bank 1 power", M33 VDDI17 (power), N2 VDDI4 (power) "VDDI port 4, bank 4 power", N13 VDDI3 (power) "VDDI port 3, bank 3 power", N15 VDDI2 (power) "VDDI port 2, bank 2 power", N19 VDDI1 (power) "VDDI port 1, bank 1 power", N21 VDDI1 (power) "VDDI port 1, bank 1 power", N30 VDDI18 (power), P5 VDDI4 (power) "VDDI port 4, bank 4 power", P22 VDDI18 (power), P27 VDDI18 (power), R8 VDDI4 (power) "VDDI port 4, bank 4 power", R13 VDDI4 (power) "VDDI port 4, bank 4 power", R34 VDDI17 (power), T1 VDDI5 (power) "VDDI port 5, bank 5 power", T22 VDDI17 (power), T31 VDDI17 (power), U4 VDDI5 (power) "VDDI port 5, bank 5 power", U13 VDDI4 (power) "VDDI port 4, bank 4 power", U28 VDDI17 (power), V7 VDDI5 (power) "VDDI port 5, bank 5 power", V22 VDDI16 (power), V25 VDDI16 (power), W10 VDDI5 (power) "VDDI port 5, bank 5 power", W13 VDDI5 (power) "VDDI port 5, bank 5 power", W32 VDDI16 (power), Y3 VDDI5 (power) "VDDI port 5, bank 5 power", Y29 VDDI16 (power)